# EAGLE library part MCP4017 (library MICROCHIP)
MICROCHIP MCP4017 7-Bit Single I2C™ Digital POT with Volatile Memory in SC70 Datasheet <http://ww1.microchip.com/downloads/en/DeviceDoc/22147a.pdf>
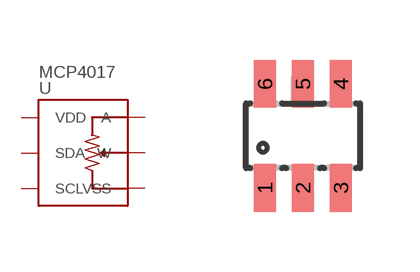
[diagram p0: symbol with the pads of SOT23-6; footprint SOT23-6]

Designator prefix -

## MCP4017  [SOT23-6]
1  VDD  pas
2  VSS  pas
3  SCL  pas
4  SDA  pas
5  W  pas
6  A  pas

## Footprint SOT23-6 (pad centres in mm)
smd 0.55 x 1.2: 1 -0.95,-1.3; 2 0,-1.3; 3 0.95,-1.3; 4 0.95,1.3; 5 0,1.3; 6 -0.95,1.3